# Altium footprint library SamacSys.PcbLib: 2 footprints
Each footprint in its own frame and in the unit in brackets; x right, y up, seen from the top. Pads: shape width x height; smd on the part's side, far side on the other; paste and mask are expansions set on the pad; w line width, h text height; cw(c..) or ccw(c..) is an arc to the next point about the centre after c.
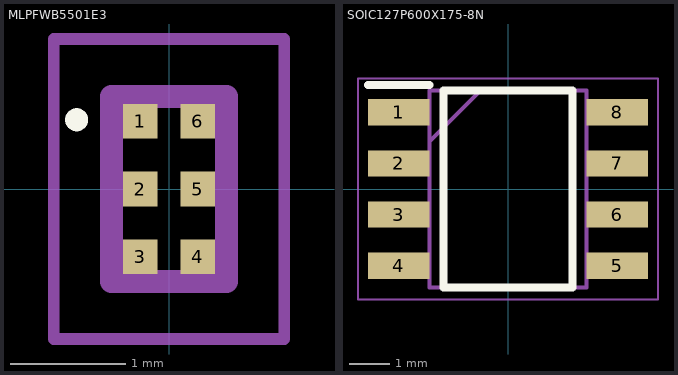
[diagram p0: the footprints below, top view; thin cyan lines are the x and y axes]

## MLPFWB5501E3 [mm]
pads (6):
  rect 0.3x0.3 smd: 1(-0.25,0.587) 2(-0.25,0) 3(-0.25,-0.587) 4(0.25,-0.587) 5(0.25,0) 6(0.25,0.587)
Top Overlay:
  lines w0.1: -0.8,0.55 ccw(c-0.8,0.6) -0.8,0.65 ccw(c-0.8,0.6) -0.8,0.55
Mechanical 13:
  lines w0.2: -0.5,-0.8 -0.5,0.8 0.5,0.8 0.5,-0.8 -0.5,-0.8
Mechanical 15:
  lines w0.1: -1,-1.3 -1,1.3 1,1.3 1,-1.3 -1,-1.3
3D body "MLPF-WB55-01E3.stp": height 0.8, standoff 0, extent -0.5,-0.8 0.5,0.8

## SOIC127P600X175-8N [mm]
pads (8):
  rect 1.525x0.65 smd: 1(-2.712,1.905) 2(-2.712,0.635) 3(-2.712,-0.635) 4(-2.712,-1.905) 5(2.712,-1.905) 6(2.712,-0.635) 7(2.712,0.635) 8(2.712,1.905)
Top Overlay:
  lines w0.2: -3.475,2.58 -1.95,2.58 ; -1.6,-2.45 1.6,-2.45 1.6,2.45 -1.6,2.45 -1.6,-2.45
Mechanical 13:
  lines w0.1: -1.95,1.18 -0.68,2.45 ; -1.95,-2.45 1.95,-2.45 1.95,2.45 -1.95,2.45 -1.95,-2.45
Mechanical 15:
  lines w0.05: -3.725,-2.75 3.725,-2.75 3.725,2.75 -3.725,2.75 -3.725,-2.75
3D body "NE555DR.stp": height 1.75, standoff 0, extent -3,-2.45 3,2.45